# EAGLE library part USB-C-RECEPTICAL (library Cynara-Connectors)
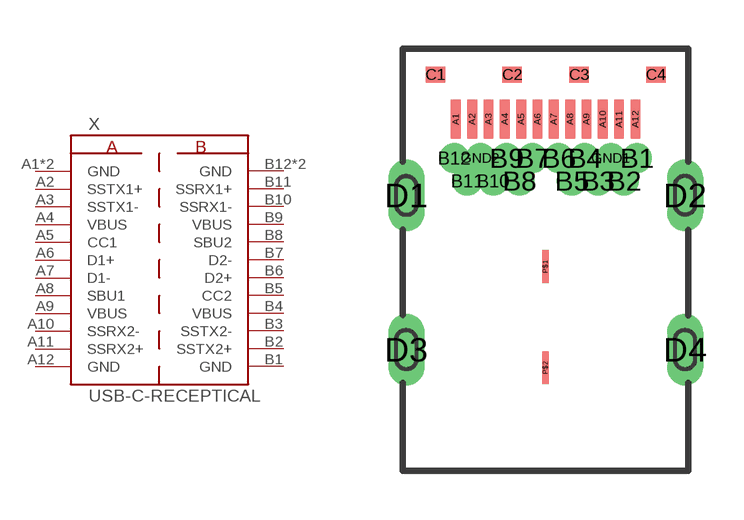
[diagram p16: symbol with the pads of USB-C-RECEPTICAL(632723100011); footprint USB-C-RECEPTICAL(632723100011)]

Designator prefix X

## USB-C-RECEPTICAL-RA (MANUFACTURER: WURTH; MANUFACTURERPARTNO: 632723100011; VALUE: USB C socket)  [USB-C-RECEPTICAL(632723100011)]
A1  GND
A2  SSTX1+
A3  SSTX1-
A4  VBUS
A5  CC1
A6  D1+
A7  D1-
A8  SBU1
A9  VBUS
A10  SSRX2-
A11  SSRX2+
A12  GND
B1  GND
B2  SSTX2+
B3  SSTX2-
B4  VBUS
B5  CC2
B6  D2+
B7  D2-
B8  SBU2
B9  VBUS
B10  SSRX1-
B11  SSRX1+
B12  GND
GND1  GND
GND2  GND

## Footprint USB-C-RECEPTICAL(632723100011) (pad centres in mm)
smd 0.3 x 1.2: A1 -2.75,1.2; A2 -2.25,1.2; A3 -1.75,1.2; A4 -1.25,1.2; A5 -0.75,1.2; A6 -0.25,1.2; A7 0.25,1.2; A8 0.75,1.2; A9 1.25,1.2; A10 1.75,1.2; A11 2.25,1.2; A12 2.75,1.2
drill 0.4 pad 0.55: B1 2.8,0; B2 2.4,-0.7; B3 1.6,-0.7; B4 1.2,0; B5 0.8,-0.7; B6 0.4,0; B7 -0.4,0; B8 -0.8,-0.7; B9 -1.2,0; B10 -1.6,-0.7; B11 -2.4,-0.7; B12 -2.8,0; GND1 2,0; GND2 -2,0
smd 0.6 x 0.5: C1 -3.375,2.56; C2 -1.025,2.56; C3 1.025,2.56; C4 3.375,2.56
drill 0.6 pad 1 long: D1 -4.27,-1.14; D2 4.27,-1.14; D3 -4.27,-5.87; D4 4.27,-5.87
smd 0.2 x 1: P$1 0,-3.32; P$2 0,-6.42